# EAGLE library part ATXMEGA8E5-AU (library RFiD)
ATXmega8e5 edit this description Auto generated by make-symbol-device-package-bsdl.ulp Rev. 43 Source: ATXmega8e5.txt Connect-List generated from ATXMEGA8E5.DEV Variant '' with split-device-symbol.ulp
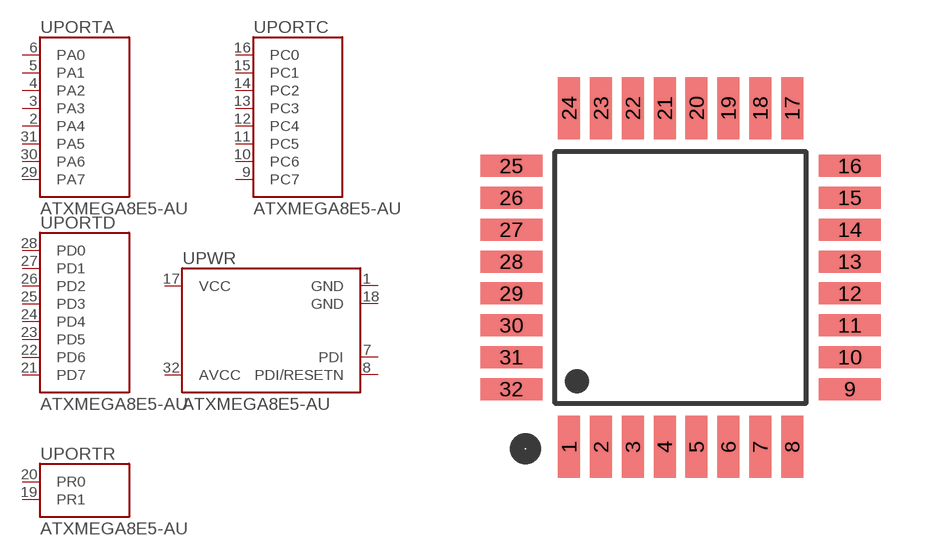
[diagram p1: symbol with the pads of TQFP32; footprint TQFP32]

Designator prefix U; gates PORTA=ATXMEGA8E5-A PORTC=ATXMEGA8E5-B PORTD=ATXMEGA8E5-C PORTR=ATXMEGA8E5-D PWR=ATXMEGA8E5-E

## ATXMEGA8E5-AU  [TQFP32]
1  PWR:GND  pwr
2  PORTA:PA4
3  PORTA:PA3
4  PORTA:PA2
5  PORTA:PA1
6  PORTA:PA0
7  PWR:PDI
8  PWR:PDI/RESETN
9  PORTC:PC7
10  PORTC:PC6
11  PORTC:PC5
12  PORTC:PC4
13  PORTC:PC3
14  PORTC:PC2
15  PORTC:PC1
16  PORTC:PC0
17  PWR:VCC  pwr
18  PWR:GND  pwr
19  PORTR:PR1
20  PORTR:PR0
21  PORTD:PD7
22  PORTD:PD6
23  PORTD:PD5
24  PORTD:PD4
25  PORTD:PD3
26  PORTD:PD2
27  PORTD:PD1
28  PORTD:PD0
29  PORTA:PA7
30  PORTA:PA6
31  PORTA:PA5
32  PWR:AVCC  pwr

## Footprint TQFP32 (pad centres in mm)
smd 0.55 x 1.55: 1 -2.8,-4.25; 2 -2,-4.25; 3 -1.2,-4.25; 4 -0.4,-4.25; 5 0.4,-4.25; 6 1.2,-4.25; 7 2,-4.25; 8 2.8,-4.25; 17 2.8,4.25; 18 2,4.25; 19 1.2,4.25; 20 0.4,4.25; 21 -0.4,4.25; 22 -1.2,4.25; 23 -2,4.25; 24 -2.8,4.25
smd 1.55 x 0.55: 9 4.25,-2.8; 10 4.25,-2; 11 4.25,-1.2; 12 4.25,-0.4; 13 4.25,0.4; 14 4.25,1.2; 15 4.25,2; 16 4.25,2.8; 25 -4.25,2.8; 26 -4.25,2; 27 -4.25,1.2; 28 -4.25,0.4; 29 -4.25,-0.4; 30 -4.25,-1.2; 31 -4.25,-2; 32 -4.25,-2.8